# EAGLE library part LM3880 (library texas-instruments)
TIMING DESIGNATOR td1 td2 td3 td4 td5 td6 AA 10 ms 10 ms 10 ms 10 ms 10 ms 10 ms AB 30 ms 30 ms 30 ms 30 ms 30 ms 30 ms AC 60 ms 60 ms 60 ms 60 ms 60 ms 60 ms AD 120 ms 120 ms 120 ms 120 ms 120 ms 120 ms AE 2 ms 2 ms 2 ms 2 ms 2 ms 2 ms AF 16 ms 16 ms 16 ms 16 ms 16 ms 16 ms
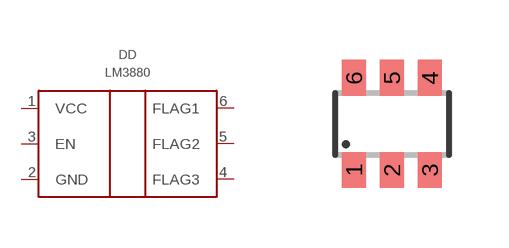
[diagram p6: symbol with the pads of SOT23-6; footprint SOT23-6]

Designator prefix DD

## LM3880  [SOT23-6]
1  VCC  pwr
2  GND  pwr
3  EN  in
4  FLAG3  out
5  FLAG2  out
6  FLAG1  out

## Footprint SOT23-6 (pad centres in mm)
Small Outline Transistor 6 lead
smd 0.6 x 0.9: 1 -0.95,-1.15; 2 0,-1.15; 3 0.95,-1.15; 4 0.95,1.15; 5 0,1.15; 6 -0.95,1.15